# EAGLE library part M5-75P100 (library amd-mach)
AMD MACH SERIES
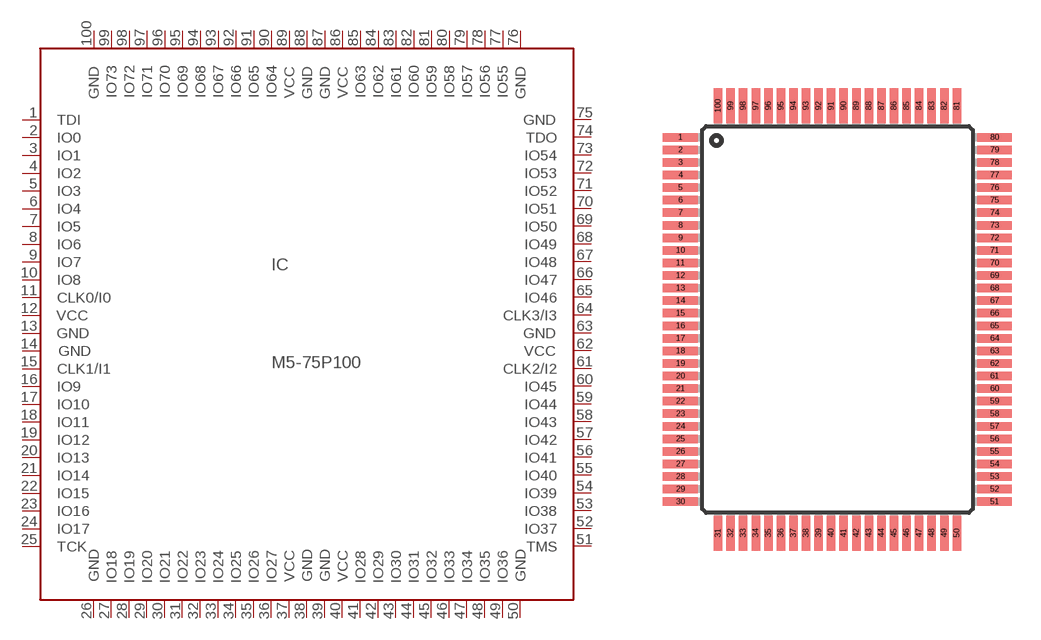
[diagram p1: symbol with the pads of PQFP100; footprint PQFP100]

Designator prefix IC

## M5-75P100 (OC_FARNELL: unknown; OC_NEWARK: unknown)  [PQFP100]
1  TDI  in
2  IO0
3  IO1
4  IO2
5  IO3
6  IO4
7  IO5
8  IO6
9  IO7
10  IO8
11  CLK0/I0  in
12  VCC  pwr
13  GND  pwr
14  GND  pwr
15  CLK1/I1  in
16  IO9
17  IO10
18  IO11
19  IO12
20  IO13
21  IO14
22  IO15
23  IO16
24  IO17
25  TCK  in
26  GND  pwr
27  IO18
28  IO19
29  IO20
30  IO21
31  IO22
32  IO23
33  IO24
34  IO25
35  IO26
36  IO27
37  VCC  pwr
38  GND  pwr
39  GND  pwr
40  VCC  pwr
41  IO28
42  IO29
43  IO30
44  IO31
45  IO32
46  IO33
47  IO34
48  IO35
49  IO36
50  GND  pwr
51  TMS  in
52  IO37
53  IO38
54  IO39
55  IO40
56  IO41
57  IO42
58  IO43
59  IO44
60  IO45
61  CLK2/I2  in
62  VCC  pwr
63  GND  pwr
64  CLK3/I3  in
65  IO46
66  IO47
67  IO48
68  IO49
69  IO50
70  IO51
71  IO52
72  IO53
73  IO54
74  TDO  out
75  GND  pwr
76  GND  pwr
77  IO55
78  IO56
79  IO57
80  IO58
81  IO59
82  IO60
83  IO61
84  IO62
85  IO63
86  VCC  pwr
87  GND  pwr
88  GND  pwr
89  VCC  pwr
90  IO64
91  IO65
92  IO66
93  IO67
94  IO68
95  IO69
96  IO70
97  IO71
98  IO72
99  IO73
100  GND  pwr

## Footprint PQFP100 (pad centres in mm)
PLASTIC QUAD FLAT PACK
smd 1.8 x 0.44: 1 -8.125,9.425; 2 -8.125,8.775; 3 -8.125,8.125; 4 -8.125,7.475; 5 -8.125,6.825; 6 -8.125,6.175; 7 -8.125,5.525; 8 -8.125,4.875; 9 -8.125,4.225; 10 -8.125,3.575; 11 -8.125,2.925; 12 -8.125,2.275; 13 -8.125,1.625; 14 -8.125,0.975; 15 -8.125,0.325; 16 -8.125,-0.325; 17 -8.125,-0.975; 18 -8.125,-1.625; 19 -8.125,-2.275; 20 -8.125,-2.925; 21 -8.125,-3.575; 22 -8.125,-4.225; 23 -8.125,-4.875; 24 -8.125,-5.525; 25 -8.125,-6.175; 26 -8.125,-6.825; 27 -8.125,-7.475; 28 -8.125,-8.125; 29 -8.125,-8.775; 30 -8.125,-9.425; 51 8.125,-9.425; 52 8.125,-8.775; 53 8.125,-8.125; 54 8.125,-7.475; 55 8.125,-6.825; 56 8.125,-6.175; 57 8.125,-5.525; 58 8.125,-4.875; 59 8.125,-4.225; 60 8.125,-3.575; 61 8.125,-2.925; 62 8.125,-2.275; 63 8.125,-1.625; 64 8.125,-0.975; 65 8.125,-0.325; 66 8.125,0.325; 67 8.125,0.975; 68 8.125,1.625; 69 8.125,2.275; 70 8.125,2.925; 71 8.125,3.575; 72 8.125,4.225; 73 8.125,4.875; 74 8.125,5.525; 75 8.125,6.175; 76 8.125,6.825; 77 8.125,7.475; 78 8.125,8.125; 79 8.125,8.775; 80 8.125,9.425
smd 0.44 x 1.8: 31 -6.175,-11.05; 32 -5.525,-11.05; 33 -4.875,-11.05; 34 -4.225,-11.05; 35 -3.575,-11.05; 36 -2.925,-11.05; 37 -2.275,-11.05; 38 -1.625,-11.05; 39 -0.975,-11.05; 40 -0.325,-11.05; 41 0.325,-11.05; 42 0.975,-11.05; 43 1.625,-11.05; 44 2.275,-11.05; 45 2.925,-11.05; 46 3.575,-11.05; 47 4.225,-11.05; 48 4.875,-11.05; 49 5.525,-11.05; 50 6.175,-11.05; 81 6.175,11.05; 82 5.525,11.05; 83 4.875,11.05; 84 4.225,11.05; 85 3.575,11.05; 86 2.925,11.05; 87 2.275,11.05; 88 1.625,11.05; 89 0.975,11.05; 90 0.325,11.05; 91 -0.325,11.05; 92 -0.975,11.05; 93 -1.625,11.05; 94 -2.275,11.05; 95 -2.925,11.05; 96 -3.575,11.05; 97 -4.225,11.05; 98 -4.875,11.05; 99 -5.525,11.05; 100 -6.175,11.05